# Altium schematic symbol library RF Receivers.SchLib: 1 symbol
Pins are listed as number, name and electrical type; pins without a type are passive.

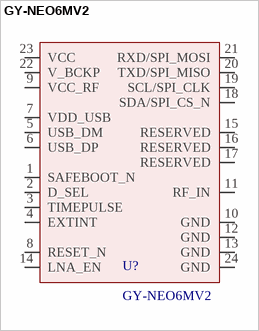
[diagram p0: symbol GY-NEO6MV2]

## GY-NEO6MV2
designator U?
footprint GY-NEO6MV2
pins: 1 SAFEBOOT_N, 2 D_SEL, 3 TIMEPULSE, 4 EXTINT, 5 USB_DM, 6 USB_DP, 7 VDD_USB, 8 RESET_N, 9 VCC_RF, 10 GND, 11 RF_IN, 12 GND, 13 GND, 14 LNA_EN, 15 RESERVED, 16 RESERVED, 17 RESERVED, 18 SDA/SPI_CS_N, 19 SCL/SPI_CLK, 20 TXD/SPI_MISO, 21 RXD/SPI_MOSI, 22 V_BCKP, 23 VCC, 24 GND